# EAGLE library part ADA1893 (library cwParts)
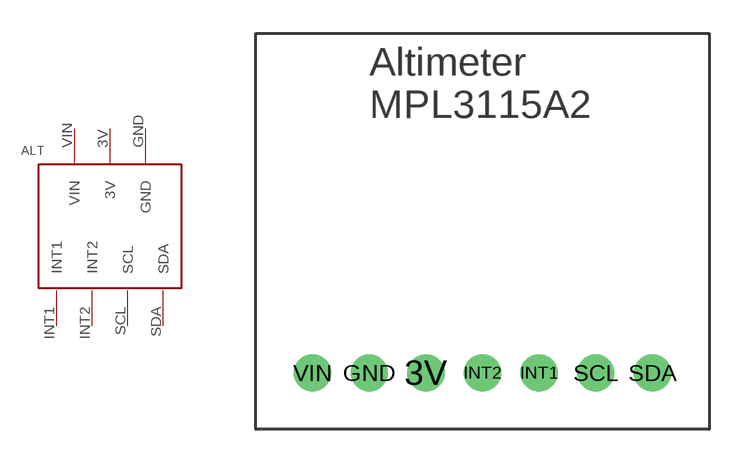
[diagram p1: symbol with the pads of ADA1893; footprint ADA1893]

Designator prefix ALT

## ADA1893  [ADA1893]
3V  3V  pwr
GND  GND  pwr
INT1  INT1  out
INT2  INT2  out
SCL  SCL  in
SDA  SDA
VIN  VIN  pwr

## Footprint ADA1893 (pad centres in mm)
Adafruit MPL3115A2 Altimeter
drill 1 pad 1.676: 3V -2.54,-6.35; GND -5.08,-6.35; INT1 2.54,-6.35; INT2 0,-6.35; SCL 5.08,-6.35; SDA 7.62,-6.35; VIN -7.62,-6.35